# EAGLE library part SMH-110-X2-XX-D (library project)
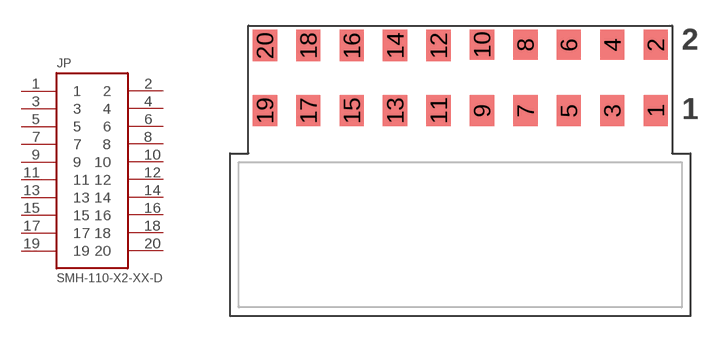
[diagram p0: symbol with the pads of SMH-110-X2-XX-D; footprint SMH-110-X2-XX-D]

Designator prefix JP

## SMH-110-X2-XX-D  [SMH-110-X2-XX-D]
1  1
2  2
3  3
4  4
5  5
6  6
7  7
8  8
9  9
10  10
11  11
12  12
13  13
14  14
15  15
16  16
17  17
18  18
19  19
20  20

## Footprint SMH-110-X2-XX-D (pad centres in mm)
smd 1.422 x 1.829: 1 11.43,-1.27; 3 8.89,-1.27; 5 6.35,-1.27; 7 3.81,-1.27; 9 1.27,-1.27; 11 -1.27,-1.27; 12 -1.27,2.54; 13 -3.81,-1.27; 14 -3.81,2.54; 15 -6.35,-1.27; 16 -6.35,2.54; 17 -8.89,-1.27; 18 -8.89,2.54; 19 -11.43,-1.27; 20 -11.43,2.54
smd 1.422 x 1.727: 2 11.43,2.591; 4 8.89,2.591; 6 6.35,2.591; 8 3.81,2.591; 10 1.27,2.591